# EAGLE library part 1984824 (library 1984824)
PCB terminal block, nominal current: 17.5 A, rated voltage (III/2): 200 V, nominal cross section: 1.5 mm?, Number of potentials: 8, Number of rows: 1, Number of positions per row: 8, product range: PT 1,5/..-V, pitch: 3.5 mm, connection method: Screw connection with wire protector, mounting: Wave soldering, conductor/PCB connection direction: 90 ?, color: green, Pin layout: Linear pinning, Solder pin [P]: 4.5 mm, type of packaging: packed in cardboard Source: Datasheet <https://componentsearchengine.com/Datasheets/1/1984824.pdf>
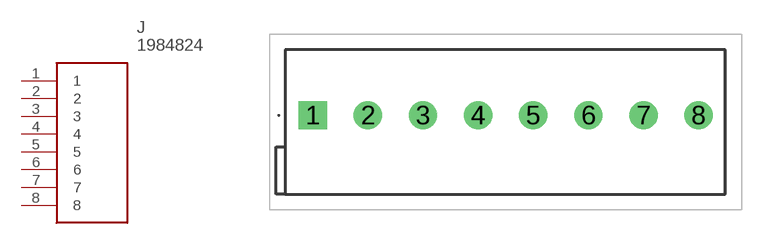
[diagram p0: symbol with the pads of 1984824; footprint 1984824]

Designator prefix J

## 1984824 (Description: PCB terminal block, nominal current: 17.5 A, rated voltage (III/2): 200 V, nominal cross section: 1.5 mm?, Number of potentials: 8, Number of rows: 1, Number of positions per row: 8, product range: PT 1,5/..-V, pitch: 3.5 mm, connection method: Screw connection with wire protector, mounting: Wave soldering, conductor/PCB connection direction: 90 ?, color: green, Pin layout: Linear pinning, Solder pin [P]: 4.5 mm, type of packaging: packed in cardboard; Height: 7.7mm; Manufacturer_Name: Phoenix Contact; Manufacturer_Part_Number: 1984824; Mouser_Part_Number: 651-1984824; Mouser_Price-Stock: https://www.mouser.com/Search/Refine.aspx?Keyword=651-1984824)  [1984824]
1  1
2  2
3  3
4  4
5  5
6  6
7  7
8  8

## Footprint 1984824 (pad centres in mm)
1984824-2
drill 1.2 pad 1.8 square: 1 0,0
drill 1.2 pad 1.8: 2 3.5,0; 3 7,0; 4 10.5,0; 5 14,0; 6 17.5,0; 7 21,0; 8 24.5,0